# EAGLE library part TEENSYLC (library IchiCustoms)
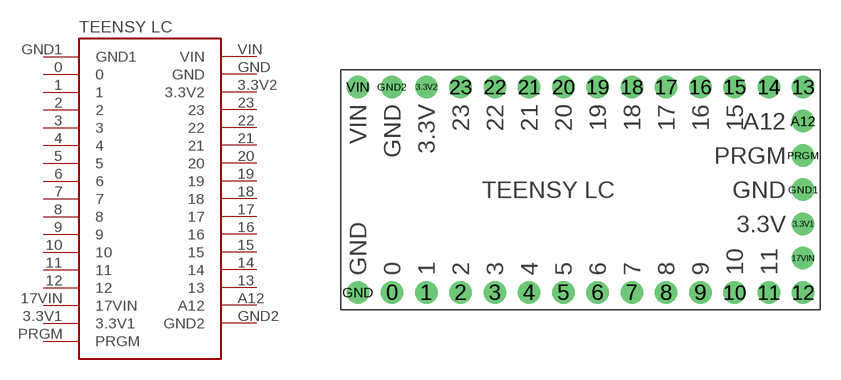
[diagram p0: symbol with the pads of TEENSYLC; footprint TEENSYLC]

Designator prefix -

## TEENSYLC  [TEENSYLC]
0  0
1  1
2  2
3  3
3.3V1  3.3V1
3.3V2  3.3V2
4  4
5  5
6  6
7  7
8  8
9  9
10  10
11  11
12  12
13  13
14  14
15  15
16  16
17  17
17VIN  17VIN
18  18
19  19
20  20
21  21
22  22
23  23
A12  A12
GND  GND
GND1  GND1
GND2  GND2
PRGM  PRGM
VIN  VIN

## Footprint TEENSYLC (pad centres in mm)
drill 1 pad 1.676: 0 3.81,1.27; 1 6.35,1.27; 2 8.89,1.27; 3 11.43,1.27; 3.3V1 34.29,6.35; 3.3V2 6.35,16.51; 4 13.97,1.27; 5 16.51,1.27; 6 19.05,1.27; 7 21.59,1.27; 8 24.13,1.27; 9 26.67,1.27; 10 29.21,1.27; 11 31.75,1.27; 12 34.29,1.27; 13 34.29,16.51; 14 31.75,16.51; 15 29.21,16.51; 16 26.67,16.51; 17 24.13,16.51; 17VIN 34.29,3.81; 18 21.59,16.51; 19 19.05,16.51; 20 16.51,16.51; 21 13.97,16.51; 22 11.43,16.51; 23 8.89,16.51; A12 34.29,13.97; GND 1.27,1.27; GND1 34.29,8.89; GND2 3.81,16.51; PRGM 34.29,11.43; VIN 1.27,16.51